# EAGLE library part TSW-106-08-L-D-RA (library TSW-106-08-L-D-RA)
Samtec TSW Series, 2.54mm Pitch 12 Way 2 Row Right Angle PCB Header, Solder Termination, 7.6A Source: Datasheet <http://uk.rs-online.com/web/p/products/7670934P>
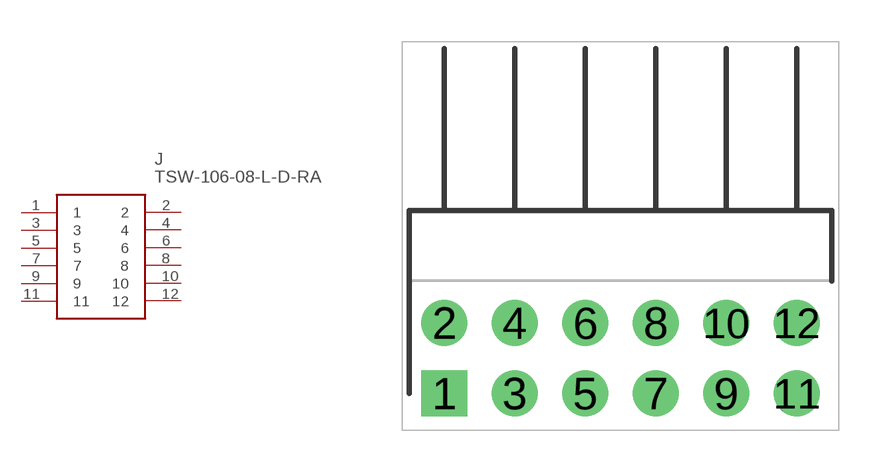
[diagram p0: symbol with the pads of HDRRA12W64P254_2X6_1524X254X61; footprint HDRRA12W64P254_2X6_1524X254X61]

Designator prefix J

## TSW-106-08-L-D-RA (Description: Samtec TSW Series, 2.54mm Pitch 12 Way 2 Row Right Angle PCB Header, Solder Termination, 7.6A; Height: 6.1mm; Manufacturer_Name: SAMTEC; Manufacturer_Part_Number: TSW-106-08-L-D-RA; RS_Part_Number: 7670934P; RS_Price-Stock: http://uk.rs-online.com/web/p/products/7670934P)  [HDRRA12W64P254_2X6_1524X254X61]
1  1
2  2
3  3
4  4
5  5
6  6
7  7
8  8
9  9
10  10
11  11
12  12

## Footprint HDRRA12W64P254_2X6_1524X254X61 (pad centres in mm)
TSW-106-08-L-D-RA
drill 1.1 pad 1.65 square: 1 0,0
drill 1.1 pad 1.65: 2 0,2.54; 3 2.54,0; 4 2.54,2.54; 5 5.08,0; 6 5.08,2.54; 7 7.62,0; 8 7.62,2.54; 9 10.16,0; 10 10.16,2.54; 11 12.7,0; 12 12.7,2.54